# Altium footprint library OPL530.PcbLib: 1 footprints
Each footprint in its own frame and in the unit in brackets; x right, y up, seen from the top. Pads: shape width x height; smd on the part's side, far side on the other; paste and mask are expansions set on the pad; w line width, h text height; cw(c..) or ccw(c..) is an arc to the next point about the centre after c.
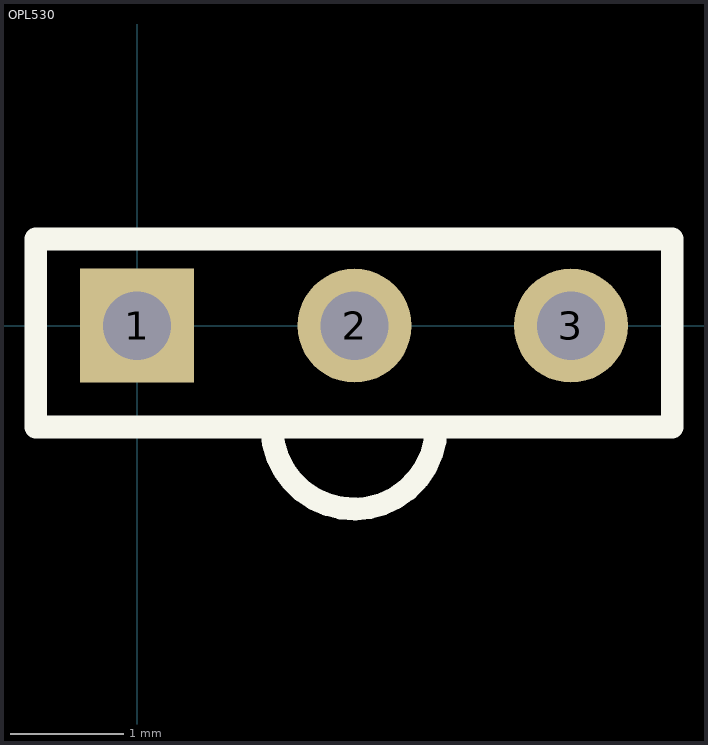
[diagram p0: the footprint, top view; thin cyan lines are the x and y axes]

## OPL530 [mm]
pads (3):
  rect 1x1 hole 0.6: 1(0,0)
  round 1 hole 0.6: 2(1.91,0) 3(3.81,0)
Top Overlay:
  lines w0.2: 1.183,-0.912 ccw(c1.905,-0.889) 2.627,-0.889 ; -0.889,-0.889 4.699,-0.889 4.699,0.762 -0.889,0.762 -0.889,-0.889